# Altium schematic symbol library AMS_1117_sch.SchLib: 1 symbol
Pins are listed as number, name and electrical type; pins without a type are passive.

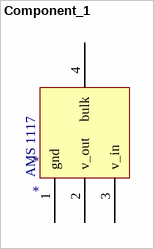
[diagram p0: symbol Component_1]

## Component_1
designator *
footprint Model Name (Footprint not found)
pins: 1 gnd, 2 v_out, 3 v_in, 4 bulk
text: AMS 1117